# Altium schematic symbol library SN74AUP1G14DCKT.SchLib: 1 symbol
Pins are listed as number, name and electrical type; pins without a type are passive.

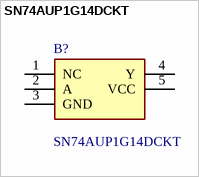
[diagram p0: symbol SN74AUP1G14DCKT]

## SN74AUP1G14DCKT
designator B?
Low-Power Single Schmitt-Trigger Inverter; Manufacturer_Name: Texas Instruments; Geometry.Height: 1.1mm; Mouser Part Number: 595-SN74AUP1G14DCKT; Mouser Price/Stock: https://www.mouser.co.uk/ProductDetail/Texas-Instruments/SN74AUP1G14DCKT?qs=X3IDIfI%252BJAVlP%2FHchvLaBQ%3D%3D; Manufacturer_Part_Number: SN74AUP1G14DCKT; Datasheet Link: http://www.ti.com/lit/gpn/SN74AUP1G14
footprint SOT65P210X110-5N
pins: 1 NC, 2 A, 3 GND, 4 Y, 5 VCC